# Altium schematic symbol library HUMID_TMP_SNS(2.15-5.5V, 16b, 8-DFN, I2C).SchLib: 1 symbol
Pins are listed as number, name and electrical type; pins without a type are passive.

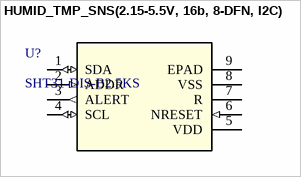
[diagram p0: symbol HUMID_TMP_SNS(2.15-5.5V, 16b, 8-DFN, I2C)]

## HUMID_TMP_SNS(2.15-5.5V, 16b, 8-DFN, I2C)
designator U?, comment SHT31-DIS-B2.5KS
HUMID_TMP_SNS(2.15-5.5V, 16b, 8-DFN, I2C); Manufacturer: Sensirion; Manufacturer_PN: SHT31-DIS-B2.5KS; Package: 8-DFN; Datasheet: https://sensirion.com/media/documents/213E6A3B/63A5A569/Datasheet_SHT3x_DIS.pdf; Digikey_Link: https://www.digikey.it/en/products/detail/sensirion-ag/SHT31-DIS-B2-5KS/5872252
footprint U_SHT3_SEN
pins: 1 SDA (io), 2 ADDR (in), 3 ALERT (out), 4 SCL (io), 5 VDD (power), 6 NRESET (in), 7 R (power), 8 VSS (power), 9 EPAD (power)